# EAGLE library part MAX-M8W (library max-m8)
MAX-M8W The MAX-M8 modules utilize concurrent reception of up to three GNSS systems (GPS/Galileo together with BeiDou or GLONASS) for more reliable positioning. The MAX-M8 series provides high sensitivity and minimal acquisition times while maintaining low system power. It also supports message integrity protection, geofencing, and spoofing detection. The MAX-M8W has in addition a built-in antenna-supply circuit and an antenna supervisor.
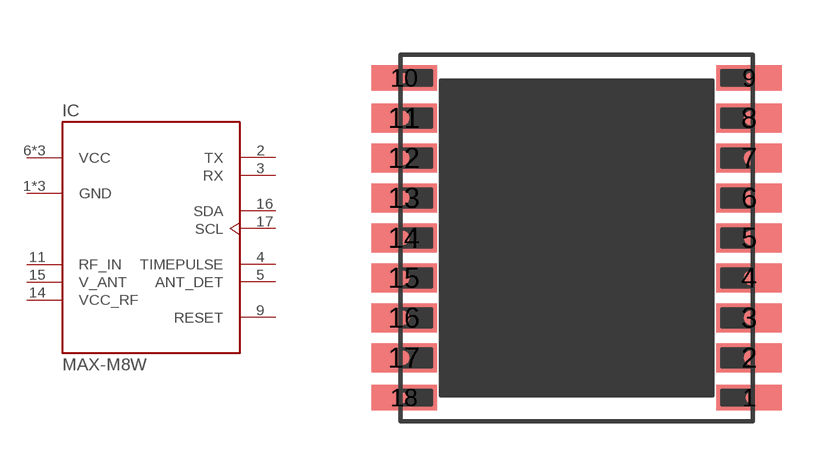
[diagram p1: symbol with the pads of MAX-M8; footprint MAX-M8]

Designator prefix IC

## MAX-M8W  [MAX-M8]
1  GND  pwr
2  TX  out
3  RX  in
4  TIMEPULSE  out
5  ANT_DET  in
6  VCC  pwr
7  VCC  pwr
8  VCC  pwr
9  RESET  in
10  GND  pwr
11  RF_IN  in
12  GND  pwr
14  VCC_RF  sup
15  V_ANT  pwr
16  SDA
17  SCL  in

## Footprint MAX-M8 (pad centres in mm)
smd 1.8 x 0.7: 1 4.732,-4.457; 9 4.732,4.343; 10 -4.768,4.343; 18 -4.768,-4.457
smd 1.8 x 0.8: 2 4.732,-3.357; 3 4.732,-2.257; 4 4.732,-1.157; 5 4.732,-0.057; 6 4.732,1.043; 7 4.732,2.143; 8 4.732,3.243; 11 -4.768,3.243; 12 -4.768,2.143; 13 -4.768,1.043; 14 -4.768,-0.057; 15 -4.768,-1.157; 16 -4.768,-2.257; 17 -4.768,-3.357